# Altium schematic symbol library SCH - PASSIVES - INDUCTOR.SCHLIB: 1 symbol
Pins are listed as number, name and electrical type; pins without a type are passive.

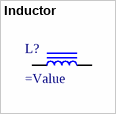
[diagram p0: symbol Inductor]

## Inductor
designator L?
SMT Inductor
footprint IND 0402/1005 RF WW (Chip Inductor, 2-Leads, Body 1.00x0.50mm, IPC High Density)
pins: 1, 2